# Altium schematic symbol library AHT11.SchLib: 1 symbol
Pins are listed as number, name and electrical type; pins without a type are passive.

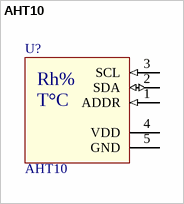
[diagram p0: symbol AHT10]

## AHT10
designator U?
value: AHT10
footprint AHT11 (Temperature and humidity sensor package footprint)
pins: 1 ADDR (in), 2 SDA (io), 3 SCL (in), 4 VDD (power), 5 GND (power)
text: Rh%; T°C